# EAGLE library part ZXGD3003 (library RoboJackets-PowerICs)
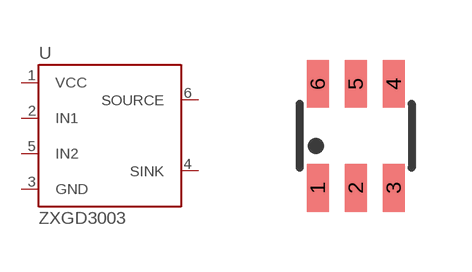
[diagram p8: symbol with the pads of SOT-23-6; footprint SOT-23-6]

Designator prefix U

## ZXGD3003  [SOT-23-6]
1  VCC
2  IN1
3  GND
4  SINK
5  IN2
6  SOURCE

## Footprint SOT-23-6 (pad centres in mm)
Small Outline Transistor
smd 0.55 x 1.2: 1 -0.95,-1.3; 2 0,-1.3; 3 0.95,-1.3; 4 0.95,1.3; 5 0,1.3; 6 -0.95,1.3